# EAGLE library part 615008138321 (library SD-kart)
WR-MJ Vertical Shielded with LED 8P8C Modular Jack, 8 pins=>Code : Con_I-O_MJ-V_Shielded_615008138321 <http://katalog.we-online.de/media/images/eican/Con_I-O_MJ-V_Shielded_615008138321_pf2.jpg> Details see: http://katalog.we-online.de/en/em/MJ_VERTICAL_SHIELDED_8P8C_W_LED Created 2014-07-10, Karrer Zheng 2014 (C) Würth Elektronik
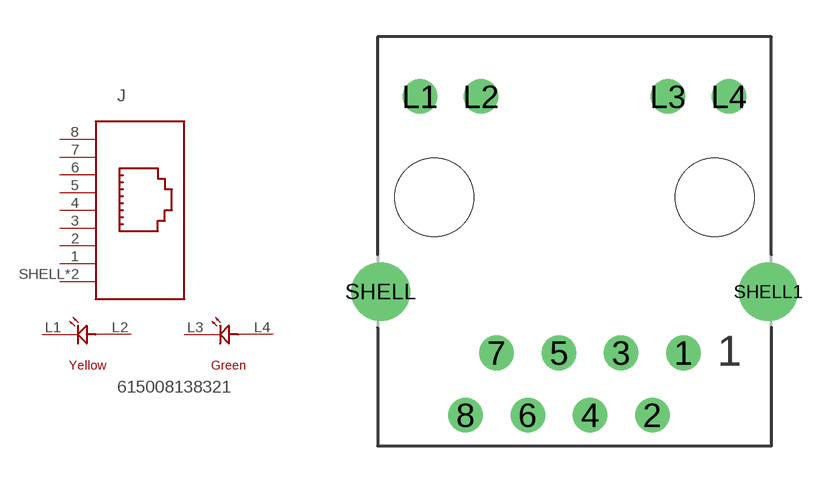
[diagram p108: symbol with the pads of 615008138321; footprint 615008138321]

Designator prefix J

## 615008138321  [615008138321]
1  1  pas
2  2  pas
3  3  pas
4  4  pas
5  5  pas
6  6  pas
7  7  pas
8  8  pas
L1  10  pas
L2  9  pas
L3  12  pas
L4  11  pas
SHELL  SHIELD  pas
SHELL1  SHIELD  pas

## Footprint 615008138321 (pad centres in mm)
WR-MJ Vertical Shielded with LED 8P8C Modular Jack, 8 pins
drill 0.9: 1 4.445,-6.35; 2 3.175,-8.89; 3 1.905,-6.35; 4 0.635,-8.89; 5 -0.635,-6.35; 6 -1.905,-8.89; 7 -3.175,-6.35; 8 -4.445,-8.89; L1 -6.3,4.11; L2 -3.81,4.11; L3 3.81,4.11; L4 6.3,4.11
drill 1.6: SHELL -7.9,-3.85; SHELL1 7.9,-3.85
hole 3.2 at -5.715,0
hole 3.2 at 5.715,0